# Altium schematic symbol library TDA7293.SchLib: 1 symbol
Pins are listed as number, name and electrical type; pins without a type are passive.

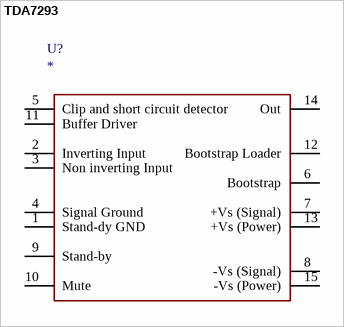
[diagram p0: symbol TDA7293]

## TDA7293
designator U?
120V - 100W DMOS Audio Amplifier
footprint Multiwatt15H
footprint Multiwatt15V
pins: 1 Stand-dy GND "Termal Pad", 2 Inverting Input "Termal Pad", 3 Non inverting Input "Termal Pad", 4 Signal Ground "Termal Pad", 5 Clip and short circuit detector "Termal Pad", 6 Bootstrap "Termal Pad", 7 +Vs (Signal) "Termal Pad", 8 -Vs (Signal) "Termal Pad", 9 Stand-by "Termal Pad", 10 Mute "Termal Pad", 11 Buffer Driver "Termal Pad", 12 Bootstrap Loader "Termal Pad", 13 +Vs (Power) "Termal Pad", 14 Out "Termal Pad", 15 -Vs (Power) "Termal Pad"